# Altium footprint library KS-01Q-01.PcbLib: 1 footprints
Each footprint in its own frame and in the unit in brackets; x right, y up, seen from the top. Pads: shape width x height; smd on the part's side, far side on the other; paste and mask are expansions set on the pad; w line width, h text height; cw(c..) or ccw(c..) is an arc to the next point about the centre after c.
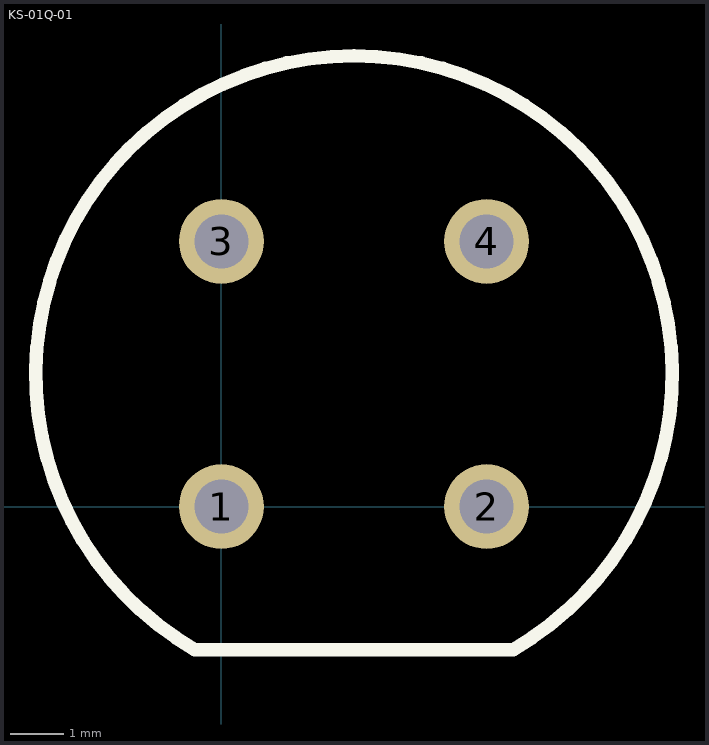
[diagram p0: the footprint, top view; thin cyan lines are the x and y axes]

## KS-01Q-01 [mm]
pads (4):
  round 1.6 hole 1.02: 1(0,0) 2(5,0) 3(0,5) 4(5,5)
Top Overlay:
  lines w0.254: -0.5,-2.696 cw(c2.5,2.5) 5.5,-2.696 -0.5,-2.696
3D body "KS-01Q-01.STEP": height 14.36, standoff -3.44, extent -3.5,-3.5 8,8.5